# EAGLE library part 691329300006 (library Eagle_WR-TBL Pluggable Connector (rev21a))
WR-TBL Serie 3293 - 3.81 mm Double Level Vertical Male PCB Header KIND PROPERTIES Pitch 3.81 mm MATERIAL PROPERTIES Insulator Material PA66 Insulator Flammability Rating UL94 V-0 Contact Material Brass Contact Plating Tin GENERAL INFORMATION Operating Temperature -40 up to +105 °C Compliance RoHS ELECTRICAL PROPERTIES IR UL 10 A Working Voltage [UL] 300 V (AC) Withstanding Voltage [cULus] 1600 V (AC) Contact Resistance [cULus] 20 mΩ CERTIFICATION cULus Approval E315414 <https://www.we-online.com/catalog/media/o33282v209%20Family_WR-TBL_6913293000xx.jpg> Details see: https://www.we-online.com/catalog/en/TBL_3_81_3293_DOUBLE_LEVEL_VERTICAL_MALE_PCB_HEADER_6913293000XX/ Updated by Ella Wu 2019-12-20 2019(C) Wurth Elektronik
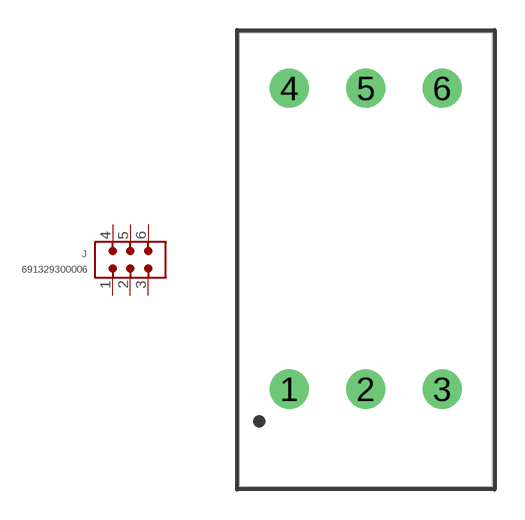
[diagram p145: symbol with the pads of 691329300006; footprint 691329300006]

Designator prefix J

## 691329300006 (DATASHEET-URL: https://www.we-online.com/catalog/datasheet/691329300006.pdf; IR-UL: 10A; MOUNT: THT; PART-NUMBER: 691329300006; PINS: 6; PITCH: 3.81mm; TYPE: Double Level Vertical; VALUE: 691329300006; WORKING-VOLTAGE-UL: 300V (AC))  [691329300006]
1  1  pas
2  2  pas
3  3  pas
4  4  pas
5  5  pas
6  6  pas

## Footprint 691329300006 (pad centres in mm)
WR-TBL Serie 3293 - 3.81 mm Double Level Vertical Male PCB Header Max Height = 22mm , Pitch 3.81mm , 6pins
drill 1.3: 1 -3.81,-7.5; 2 0,-7.5; 3 3.81,-7.5; 4 -3.81,7.5; 5 0,7.5; 6 3.81,7.5